# EAGLE library part SEVENSEGMENT (library AtomicCon)
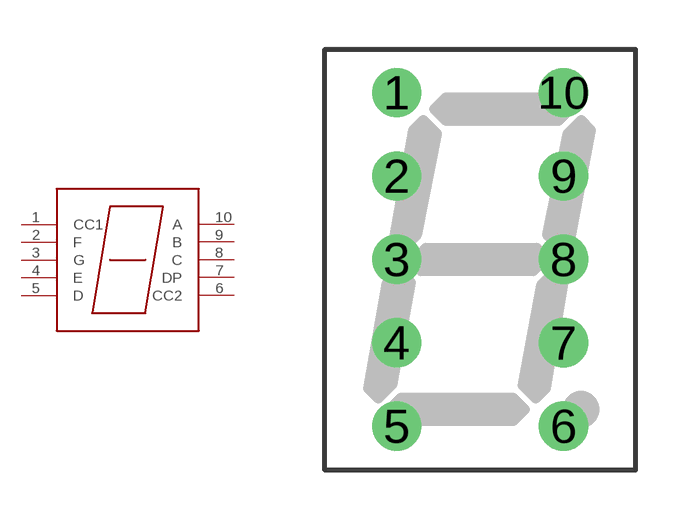
[diagram p1: symbol with the pads of LA-401; footprint LA-401]

Designator prefix -

## SEVENSEGMENT  [LA-401]
1  CC1  pas
2  F  pas
3  G  pas
4  E  pas
5  D  pas
6  CC2  pas
7  DP  pas
8  C  pas
9  B  pas
10  A  pas

## Footprint LA-401 (pad centres in mm)
Single Digit LED Numeric Display 10.16 mm Source: ROHM .. la-401dn.pdf
drill 0.9 pad 1.5: 1 -2.54,5.08; 2 -2.54,2.54; 3 -2.54,0; 4 -2.54,-2.54; 5 -2.54,-5.08; 6 2.54,-5.08; 7 2.54,-2.54; 8 2.54,0; 9 2.54,2.54; 10 2.54,5.08